# Altium footprint library PBS-4.PcbLib: 1 footprints
Each footprint in its own frame and in the unit in brackets; x right, y up, seen from the top. Pads: shape width x height; smd on the part's side, far side on the other; paste and mask are expansions set on the pad; w line width, h text height; cw(c..) or ccw(c..) is an arc to the next point about the centre after c.
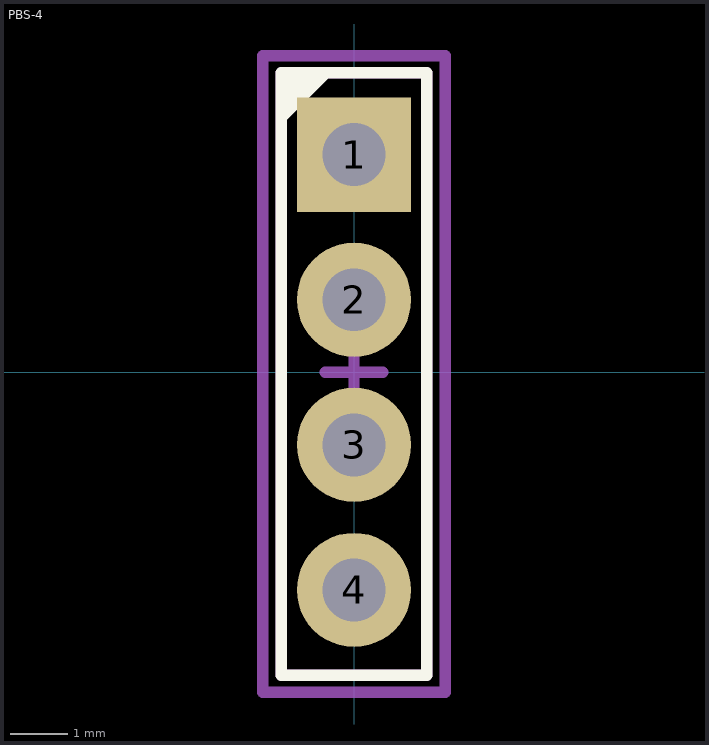
[diagram p0: the footprint, top view; thin cyan lines are the x and y axes]

## PBS-4 [mm] "2.54mm 4 pin single line female"
height 5
pads (4):
  rect 2x2 hole 1.1: 1(0,3.81)
  round 2 hole 1.1: 2(0,1.27) 3(0,-1.27) 4(0,-3.81)
Top Overlay:
  region: -1.23,5.27 -1.23,4.37 -0.33,5.27
  lines w0.2: -1.27,-5.3 -1.27,5.24 1.27,5.24 1.27,-5.3 -1.27,-5.3
Top Assembly:
  lines w0.2: -1.27,-5.3 1.27,-5.3 1.27,5.24 -1.27,5.24 -1.27,-5.3
Top Courtyard:
  lines w0.2: -1.6,-5.6 1.6,-5.6 1.6,5.54 -1.6,5.54 -1.6,-5.6
Top Component Center:
  lines w0.2: -0.5,0 0.5,0 ; 0,-0.5 0,0.5
3D body "PBS-4_(DS1023).x_t": height 5, standoff -3.3, extent -1.25,-5.33 1.25,5.33